# Altium schematic symbol library CAPAE430X550N.SchLib: 1 symbol
Pins are listed as number, name and electrical type; pins without a type are passive.

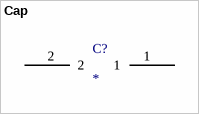
[diagram p0: symbol Cap]

## Cap
designator C?
footprint *CAPAE430X550N
pins: 1, 2